# EAGLE library part BMA020 (library JeeLabs)
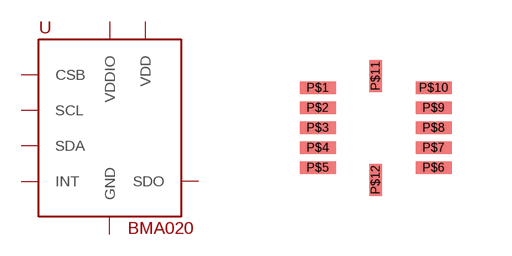
[diagram p19: symbol with the pads of LBA-12; footprint LBA-12]

Designator prefix -

## BMA020  [LBA-12]
P$2  VDD  pwr
P$3  GND  pwr
P$4  INT  oc
P$5  CSB
P$6  SCL
P$7  SDO
P$8  SDA
P$9  VDDIO  pwr

## Footprint LBA-12 (pad centres in mm)
smd 0.9 x 0.32: P$1 -1.45,1; P$2 -1.45,0.5; P$3 -1.45,0; P$4 -1.45,-0.5; P$5 -1.45,-1; P$6 1.45,-1; P$7 1.45,-0.5; P$8 1.45,0; P$9 1.45,0.5; P$10 1.45,1
smd 0.32 x 0.8: P$11 0,1.3; P$12 0,-1.3